# Altium schematic symbol library TLV320AIC3254.SchLib: 1 symbol
Pins are listed as number, name and electrical type; pins without a type are passive.

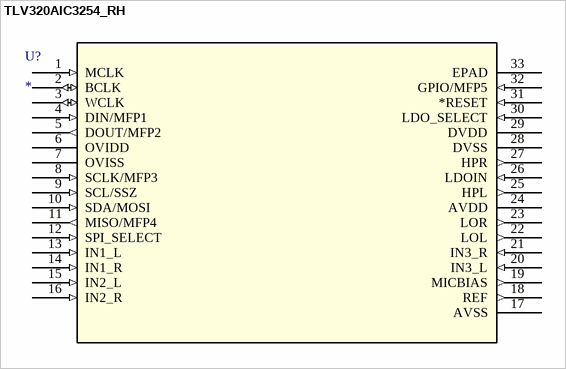
[diagram p0: symbol TLV320AIC3254_RH]

## TLV320AIC3254_RH
designator U?
Imported; Manufacturer_Part_Number: tlv320aic3254_rhb_32; GENERIC_PART_NUMBER: TLV320AIC3254; Vendor: Texas Instruments; PACKAGE_DESIGNATOR: RHB; PIN_COUNT: 32; FAMILY_NAME: Audio CODEC; INDUSTRY_STD_PKG_TYPE: QFN; Manufacturer: Texas Instruments; Datasheet_URL: http://www.ti.com/lit/gpn/TLV320AIC3254; Value: Value; Type: Type; RefDes: RefDes
footprint RHB32_3P45X3P45
pins: 1 MCLK (in), 2 BCLK (io), 3 WCLK (io), 4 DIN/MFP1 (in), 5 DOUT/MFP2 (out), 6 OVIDD (power), 7 OVISS (power), 8 SCLK/MFP3 (in), 9 SCL/SSZ (in), 10 SDA/MOSI (in), 11 MISO/MFP4 (out), 12 SPI_SELECT (in), 13 IN1_L (in), 14 IN1_R (in), 15 IN2_L (in), 16 IN2_R (in), 17 AVSS (power), 18 REF (out), 19 MICBIAS (out), 20 IN3_L (in), 21 IN3_R (in), 22 LOL (out), 23 LOR (out), 24 AVDD (power), 25 HPL (out), 26 LDOIN (in), 27 HPR (out), 28 DVSS (power), 29 DVDD (power), 30 LDO_SELECT (in), 31 *RESET (in), 32 GPIO/MFP5 (in), 33 EPAD